# Altium footprint library NXW-04K.PcbLib: 1 footprints
Each footprint in its own frame and in the unit in brackets; x right, y up, seen from the top. Pads: shape width x height; smd on the part's side, far side on the other; paste and mask are expansions set on the pad; w line width, h text height; cw(c..) or ccw(c..) is an arc to the next point about the centre after c.
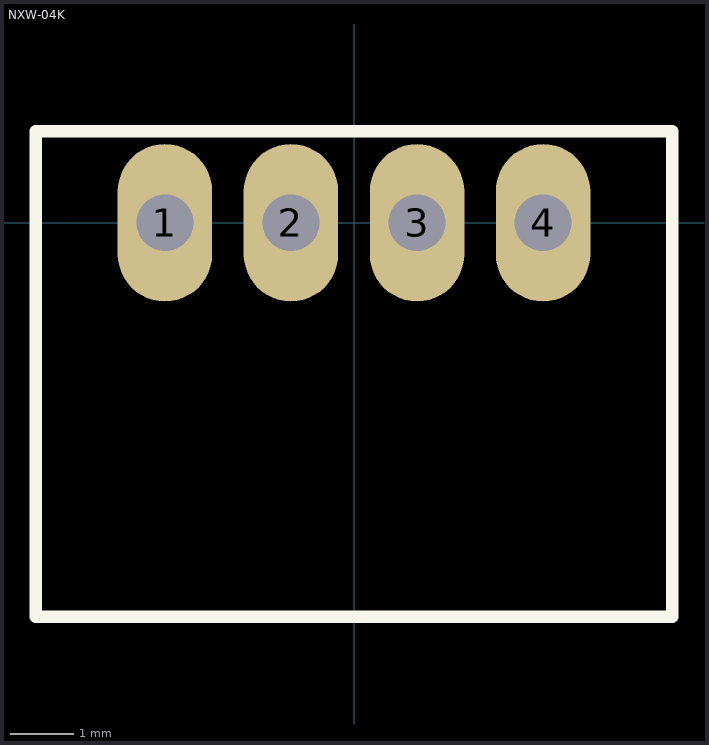
[diagram p0: the footprint, top view; thin cyan lines are the x and y axes]

## NXW-04K [mm]
pads (4):
  oval 1.5x2.5 hole 0.9: 1(-3,0) 2(-1,0) 3(1,0) 4(3,0)
Top Overlay:
  lines w0.2: 1,1.45 -5.05,1.45 -5.05,-1.9 -5.05,-6.25 5.05,-6.25 5.05,-1.9 5.05,1.45 1.05,1.45
Top Assembly:
  lines w0.1: -5.05,-6.25 -5.05,1.45 1,1.45 5.05,1.45 5.05,-6.25 -5.05,-6.25
  text "'.Designator'" at -0.575,-0.375 h0.7
3D body: height 0.25, standoff -17.1, extent 0,0 0,0
3D body "NXW-04K.stp": height 5, standoff -3.4, extent -5.05,-6.25 5.05,1.45